# EAGLE library part DS1100Z-500 (library ruark2)
Delay Line IC Nonprogrammable 5 Tap 500ns 8-SOIC (0.154", 3.90mm Width)
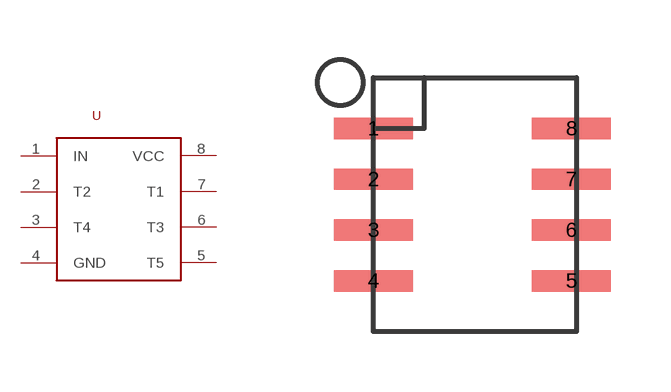
[diagram p2: symbol with the pads of SOIC8; footprint SOIC8]

Designator prefix U

## DS1100Z-500 (PARTNO: DS1100Z-500+-ND)  [SOIC8]
1  IN
2  T2
3  T4
4  GND
5  T5
6  T3
7  T1
8  VCC

## Footprint SOIC8 (pad centres in mm)
smd 1.981 x 0.533: 1 -2.477,1.905; 2 -2.477,0.635; 3 -2.477,-0.635; 4 -2.477,-1.905; 5 2.477,-1.905; 6 2.477,-0.635; 7 2.477,0.635; 8 2.477,1.905